# EAGLE library part LIS3DE_TUSB320LAI (library pendulum_control_board)
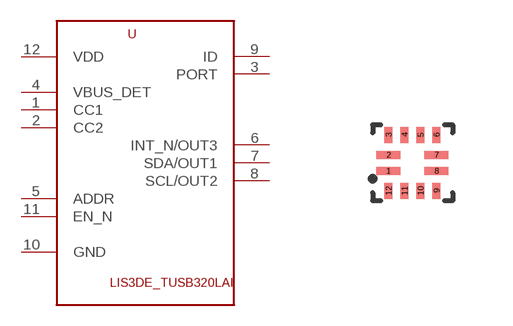
[diagram p7: symbol with the pads of LIS3DE_X2QFN-12; footprint LIS3DE_X2QFN-12]

Designator prefix -

## LIS3DE_TUSB320LAI  [LIS3DE_X2QFN-12]
1  CC1
2  CC2
3  PORT
4  VBUS_DET
5  ADDR
6  INT_N/OUT3
7  SDA/OUT1
8  SCL/OUT2
9  ID
10  GND
11  EN_N
12  VDD

## Footprint LIS3DE_X2QFN-12 (pad centres in mm)
smd 0.6 x 0.2: 1 -0.65,-0.2; 2 -0.65,0.2; 7 0.55,0.2; 8 0.55,-0.2
smd 0.2 x 0.4: 3 -0.65,0.7; 4 -0.25,0.7; 5 0.15,0.7; 6 0.55,0.7; 9 0.55,-0.7; 10 0.15,-0.7; 11 -0.25,-0.7; 12 -0.65,-0.7